# Altium footprint library CONV_R05C1TF05S-R.PcbLib: 1 footprints
Each footprint in its own frame and in the unit in brackets; x right, y up, seen from the top. Pads: shape width x height; smd on the part's side, far side on the other; paste and mask are expansions set on the pad; w line width, h text height; cw(c..) or ccw(c..) is an arc to the next point about the centre after c.
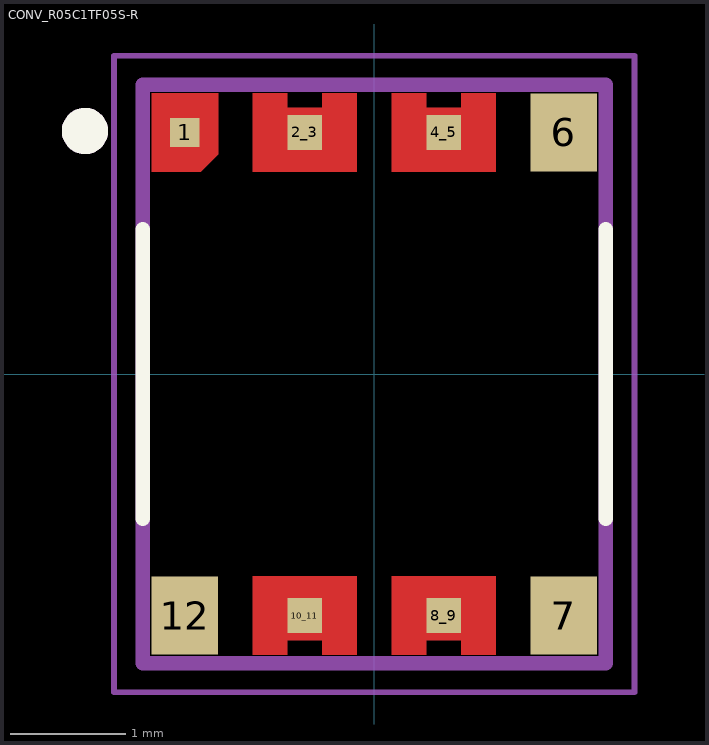
[diagram p0: the footprint, top view; thin cyan lines are the x and y axes]

## CONV_R05C1TF05S-R [mm]
height 1.28
pads (8):
  rect 0.254x0.254 smd paste-1 mask+0: 1(-1.637,2.087)
  rect 0.3x0.3 smd paste-1 mask+0: 2_3(-0.6,2.087) 4_5(0.6,2.087) 8_9(0.6,-2.087) 10_11(-0.6,-2.087)
  rect 0.575x0.675 smd: 6(1.637,2.087) 7(1.637,-2.087) 12(-1.637,-2.087)
Top Layer:
  region: -0.15,1.75 -1.05,1.75 -1.05,2.425 -0.75,2.425 -0.75,2.3 -0.45,2.3 -0.45,2.425 -0.15,2.425
  region: 1.05,1.75 0.15,1.75 0.15,2.425 0.45,2.425 0.45,2.3 0.75,2.3 0.75,2.425 1.05,2.425
  region: -0.15,-2.425 -0.45,-2.425 -0.45,-2.3 -0.75,-2.3 -0.75,-2.425 -1.05,-2.425 -1.05,-1.75 -0.15,-1.75
  region: 1.05,-2.425 0.75,-2.425 0.75,-2.3 0.45,-2.3 0.45,-2.425 0.15,-2.425 0.15,-1.75 1.05,-1.75
  region: -1.35,1.9 -1.5,1.75 -1.925,1.75 -1.925,2.425 -1.35,2.425
Top Overlay:
  circle w0.2: c-2.5,2.1 r0.1
  lines w0.127: -2,-1.25 -2,1.25 ; 2,-1.25 2,1.25
Top Paste:
  region: -0.15,1.75 -1.05,1.75 -1.05,2.425 -0.75,2.425 -0.75,2.3 -0.45,2.3 -0.45,2.425 -0.15,2.425
  region: 1.05,1.75 0.15,1.75 0.15,2.425 0.45,2.425 0.45,2.3 0.75,2.3 0.75,2.425 1.05,2.425
  region: -0.15,-2.425 -0.45,-2.425 -0.45,-2.3 -0.75,-2.3 -0.75,-2.425 -1.05,-2.425 -1.05,-1.75 -0.15,-1.75
  region: 1.05,-2.425 0.75,-2.425 0.75,-2.3 0.45,-2.3 0.45,-2.425 0.15,-2.425 0.15,-1.75 1.05,-1.75
  region: -1.35,1.9 -1.5,1.75 -1.925,1.75 -1.925,2.425 -1.35,2.425
Top Solder:
  region: -0.05,1.65 -1.15,1.65 -1.15,2.525 -0.65,2.525 -0.65,2.4 -0.55,2.4 -0.55,2.525 -0.05,2.525
  region: 1.15,1.65 0.05,1.65 0.05,2.525 0.55,2.525 0.55,2.4 0.65,2.4 0.65,2.525 1.15,2.525
  region: -0.05,-2.525 -0.55,-2.525 -0.55,-2.4 -0.65,-2.4 -0.65,-2.525 -1.15,-2.525 -1.15,-1.65 -0.05,-1.65
  region: 1.15,-2.525 0.65,-2.525 0.65,-2.4 0.55,-2.4 0.55,-2.525 0.05,-2.525 0.05,-1.65 1.15,-1.65
  region: -1.25,1.9 -1.5,1.65 -2.025,1.65 -2.025,2.525 -1.25,2.525
Mechanical 13:
  circle w0.2: c-2.5,2.1 r0.1
  lines w0.127: -2,-2.5 -2,2.5 2,2.5 2,-2.5 -2,-2.5
Mechanical 15:
  lines w0.05: -2.25,-2.75 -2.25,2.75 2.25,2.75 2.25,-2.75 -2.25,-2.75
3D body "R05C1TF05S-R.stp": height 1.12, standoff -0.06, extent -2.004,-2.506 1.996,2.494